# Altium schematic symbol library RGB_Controller.SchLib: 10 symbols
Pins are listed as number, name and electrical type; pins without a type are passive.

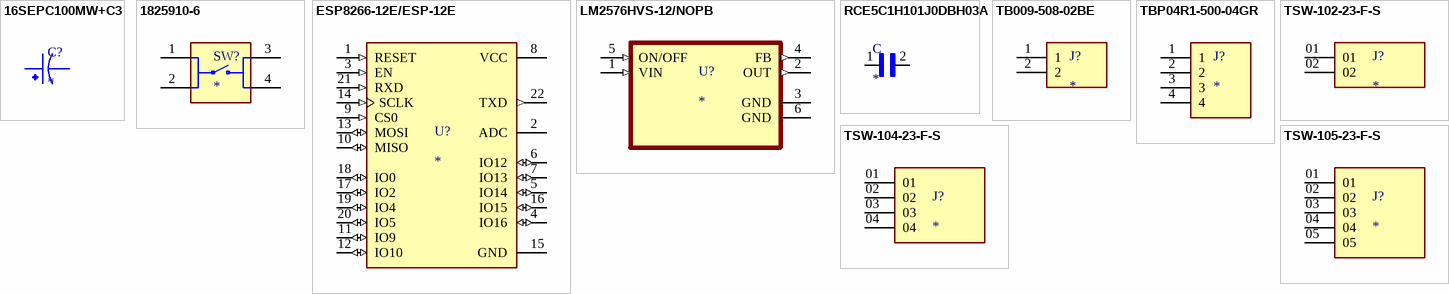
[diagram p0: symbols 16SEPC100MW+C3 to TSW-105-23-F-S]

## 16SEPC100MW+C3
designator C?
Conductive Polymer Aluminum Solid Capacitors, SEPC Series, 100uF , -55 +105C, 16V, radial lead type (6.3 x 9mm); MF: Panasonic; MP: 16SEPC100MW+C3; SnapEDA_Link: https://www.snapeda.com/parts/16SEPC100MW+C3/Panasonic/view-part/?ref=snap; Price: None; Package: RADIAL-2 Panasonic; Value: *; Check_prices: https://www.snapeda.com/parts/16SEPC100MW+C3/Panasonic/view-part/?ref=eda; Availability: Not in stock
footprint CAPPRD250W60D630H900
footprint CAPPRD250W60D630H900
pins: 1, 2

## 1825910-6
designator SW?
Switch Push Button OFF (ON) SPST Round Button 0.05A 24VDC Momentary Contact PC Pins Thru-Hole; MP: 1825910-6; MF: TE Connectivity; Value: *; Package: None; Check_prices: https://www.snapeda.com/parts/1825910-6/TE+Connectivity+ALCOSWITCH+Switches/view-part/?ref=eda; SnapEDA_Link: https://www.snapeda.com/parts/1825910-6/TE+Connectivity+ALCOSWITCH+Switches/view-part/?ref=snap; Digi-Key_Part_Number: 450-1650-ND; Purchase-URL: https://pricing.snapeda.com/search/part/1825910-6/?ref=eda
footprint SW_1825910-6-4
pins: 1, 2, 3, 4

## ESP8266-12E/ESP-12E
designator U?
This WiFi module has a 32-bit MCU micro and clock speeds supporting 80 MHz or 160 MHz. Supports the RTOS and integrated Wi-Fi MAC/BB/RF/PA/LNA, and has an on-board antenna.; MF: AI-Thinker; MP: ESP8266-12E/ESP-12E; Value: *; SnapEDA_Link: https://www.snapeda.com/parts/ESP8266-12E/ESP-12E/AI-Thinker/view-part/?ref=snap; Availability: Not in stock; Price: None; Package: None; Check_prices: https://www.snapeda.com/parts/ESP8266-12E/ESP-12E/AI-Thinker/view-part/?ref=eda
footprint XCVR_ESP8266-12E/ESP-12E
pins: 1 RESET (in), 2 ADC, 3 EN (in), 4 IO16 (io), 5 IO14 (io), 6 IO12 (io), 7 IO13 (io), 8 VCC (power), 9 CS0 (in), 10 MISO (io), 11 IO9 (io), 12 IO10 (io), 13 MOSI (io), 14 SCLK (in), 15 GND (power), 16 IO15 (io), 17 IO2 (io), 18 IO0 (io), 19 IO4 (io), 20 IO5 (io), 21 RXD (in), 22 TXD (out)

## LM2576HVS-12/NOPB
designator U?
SIMPLE SWITCHER&reg; 4V to 60V, 3A Low Component Count Step-Down Regulator 5-DDPAK/TO-263 -40 to 125; MP: LM2576HVS-12; MF: Texas Instruments; SnapEDA_Link: https://www.snapeda.com/parts/LM2576HVS-12/Texas+Instruments/view-part/?ref=snap; Package: TO-263-5 Texas Instruments; Check_prices: https://www.snapeda.com/parts/LM2576HVS-12/Texas+Instruments/view-part/?ref=eda; Purchase-URL: https://pricing.snapeda.com/search/part/LM2576HVS-12/?ref=eda; Price: None; Value: *; Availability: In Stock
footprint VREG_TPS79625KTTR
pins: 1 VIN (in), 2 OUT (out), 3 GND (power), 4 FB (out), 5 ON/OFF (in), 6 GND (power)

## RCE5C1H101J0DBH03A
designator C
Lead Capacitor C0G(EIA) with Capacitance: 100pF and Rated Voltage: 50Vdc; MF: Murata; MP: RCE5C1H101J0DBH03A; Availability: Unavailable; Price: None; SnapEDA_Link: https://www.snapeda.com/parts/RCE5C1H101J0DBH03A/Murata/view-part/4545991/?ref=snap; Value: *; Package: Radial Murata
footprint CAP_RCE5C1H101J0DBH03A
footprint CAP_RCE5C1H101J0DBH03A
pins: 1, 2

## TB009-508-02BE
designator J?
2~24 Poles, Screw Type, Horizontal, 5.08 Pitch, 26~12 (AWG), Terminal Block Connector; MF: CUI Devices; MP: TB009-508-02BE; SnapEDA_Link: https://www.snapeda.com/parts/TB009-508-02BE/CUI+Devices/view-part/?ref=snap; Check_prices: https://www.snapeda.com/parts/TB009-508-02BE/CUI+Devices/view-part/?ref=eda; Value: *; Availability: In Stock; CUI_purchase_URL: https://www.cuidevices.com/product/interconnect/connectors/terminal-blocks/tb009-508-series?utm_source=snapeda.com&utm_medium=referral&utm_campaign=snapedaBOM; Price: None; Package: None; Purchase-URL: https://pricing.snapeda.com/search/part/TB009-508-02BE/?ref=eda
footprint CUI_TB009-508-02BE
pins: 1, 2

## TBP04R1-500-04GR
designator J?
Terminal Block; MP: TBP04R1-500-04GR; Value: *; Package: None; Availability: Unavailable; Price: None
footprint CUI_TBP04R1-500-04GR
pins: 1, 2, 3, 4

## TSW-102-23-F-S
designator J?
MP: TSW-102-23-F-S; Price: None; Package: None; Availability: Unavailable; Value: *
footprint SAMTEC_TSW-102-23-F-S
footprint SAMTEC_TSW-102-23-F-S
pins: 01, 02

## TSW-104-23-F-S
designator J?
Connector Header Through Hole 4 position 0.100 (2.54mm); MP: TSW-104-23-F-S; MF: Samtec; SnapEDA_Link: https://www.snapeda.com/parts/TSW-104-23-F-S/Samtec/view-part/?ref=snap; Package: None; Check_prices: https://www.snapeda.com/parts/TSW-104-23-F-S/Samtec/view-part/?ref=eda; Purchase-URL: https://pricing.snapeda.com/search/part/TSW-104-23-F-S/?ref=eda; Price: None; Value: *; Availability: In Stock
footprint SAMTEC_TSW-104-23-F-S
pins: 01, 02, 03, 04

## TSW-105-23-F-S
designator J?
Connector Header Through Hole 5 position 0.100 (2.54mm); MP: TSW-105-23-F-S; MF: Samtec; SnapEDA_Link: https://www.snapeda.com/parts/TSW-105-23-F-S/Samtec/view-part/?ref=snap; Digi-Key_Part_Number: TSW-105-23-F-S-ND; Purchase-URL: https://pricing.snapeda.com/search/part/TSW-105-23-F-S/?ref=eda; Value: *; Package: None; Check_prices: https://www.snapeda.com/parts/TSW-105-23-F-S/Samtec/view-part/?ref=eda
footprint SAMTEC_TSW-105-23-F-S
pins: 01, 02, 03, 04, 05